# EAGLE library part MSP430FR2311IPW20 (library MSP430FR2311IPW20)
16-bit Microcontrollers - MCU 16 MHz Ultra-low-power microcontroller with 4 KB FRAM, 1 KB SRAM, 12 IO, 8 ch ADC10, OpAmps, TIA 20-TSSOP -40 to 85 Source: Datasheet <http://www.ti.com/lit/ds/slase58b/slase58b.pdf>
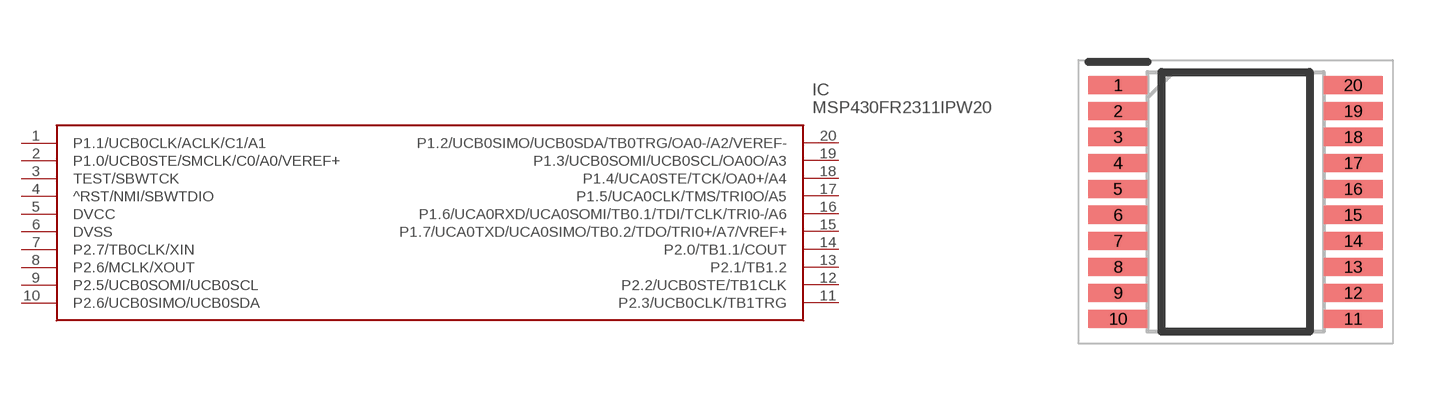
[diagram p0: symbol with the pads of SOP65P640X120-20N; footprint SOP65P640X120-20N]

Designator prefix IC

## MSP430FR2311IPW20 (Description: 16-bit Microcontrollers - MCU 16 MHz Ultra-low-power microcontroller with 4 KB FRAM, 1 KB SRAM, 12 IO, 8 ch ADC10, OpAmps, TIA 20-TSSOP -40 to 85; Height: 1.2mm; Manufacturer_Name: Texas Instruments; Manufacturer_Part_Number: MSP430FR2311IPW20; Mouser_Part_Number: 595-SP430FR2311IPW20; Mouser_Price-Stock: https://www.mouser.com/Search/Refine.aspx?Keyword=595-SP430FR2311IPW20)  [SOP65P640X120-20N]
1  P1.1/UCB0CLK/ACLK/C1/A1
2  P1.0/UCB0STE/SMCLK/C0/A0/VEREF+
3  TEST/SBWTCK
4  ^RST/NMI/SBWTDIO
5  DVCC  pwr
6  DVSS  pwr
7  P2.7/TB0CLK/XIN
8  P2.6/MCLK/XOUT
9  P2.5/UCB0SOMI/UCB0SCL
10  P2.6/UCB0SIMO/UCB0SDA
11  P2.3/UCB0CLK/TB1TRG
12  P2.2/UCB0STE/TB1CLK
13  P2.1/TB1.2
14  P2.0/TB1.1/COUT
15  P1.7/UCA0TXD/UCA0SIMO/TB0.2/TDO/TRI0+/A7/VREF+
16  P1.6/UCA0RXD/UCA0SOMI/TB0.1/TDI/TCLK/TRI0-/A6
17  P1.5/UCA0CLK/TMS/TRI0O/A5
18  P1.4/UCA0STE/TCK/OA0+/A4
19  P1.3/UCB0SOMI/UCB0SCL/OA0O/A3
20  P1.2/UCB0SIMO/UCB0SDA/TB0TRG/OA0-/A2/VEREF-

## Footprint SOP65P640X120-20N (pad centres in mm)
PW (R-PDSO-G20)
smd 1.475 x 0.45: 1 -2.938,2.925; 2 -2.938,2.275; 3 -2.938,1.625; 4 -2.938,0.975; 5 -2.938,0.325; 6 -2.938,-0.325; 7 -2.938,-0.975; 8 -2.938,-1.625; 9 -2.938,-2.275; 10 -2.938,-2.925; 11 2.938,-2.925; 12 2.938,-2.275; 13 2.938,-1.625; 14 2.938,-0.975; 15 2.938,-0.325; 16 2.938,0.325; 17 2.938,0.975; 18 2.938,1.625; 19 2.938,2.275; 20 2.938,2.925